# Altium schematic symbol library Con_FFC5.Schlib: 1 symbol
Pins are listed as number, name and electrical type; pins without a type are passive.

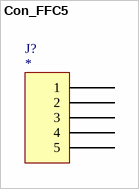
[diagram p0: symbol Con_FFC5]

## Con_FFC5
designator J?
Connector, FFC, 5 pin
pins: 1, 2, 3, 4, 5